# EAGLE library part SN65HVD232DR (library SN65HVD232DR)
3.3 V CAN Transceiver Source: Datasheet <http://www.ti.com/lit/gpn/sn65hvd232>
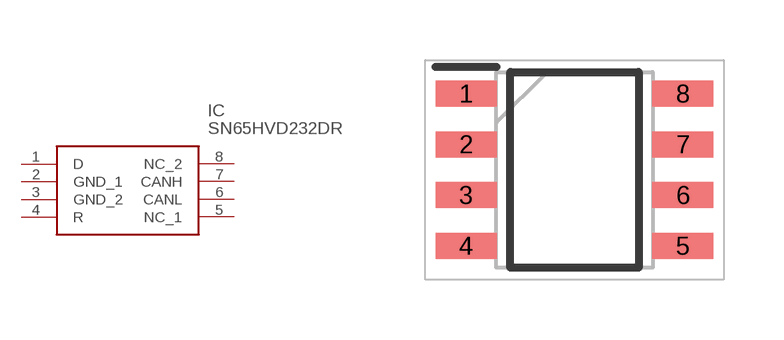
[diagram p0: symbol with the pads of SOIC127P600X175-8N; footprint SOIC127P600X175-8N]

Designator prefix IC

## SN65HVD232DR (Description: 3.3 V CAN Transceiver; Height: 1.75mm; Manufacturer_Name: Texas Instruments; Manufacturer_Part_Number: SN65HVD232DR; Mouser_Part_Number: 595-SN65HVD232DR; Mouser_Price-Stock: https://www.mouser.com/Search/Refine.aspx?Keyword=595-SN65HVD232DR)  [SOIC127P600X175-8N]
1  D
2  GND_1
3  GND_2
4  R
5  NC_1
6  CANL
7  CANH
8  NC_2

## Footprint SOIC127P600X175-8N (pad centres in mm)
D (R-PDSO-G8)
smd 1.525 x 0.65: 1 -2.712,1.905; 2 -2.712,0.635; 3 -2.712,-0.635; 4 -2.712,-1.905; 5 2.712,-1.905; 6 2.712,-0.635; 7 2.712,0.635; 8 2.712,1.905